# EAGLE library part BMP390L (library BMP390L footprint symbol)
Check availability <https://pricing.snapeda.com/parts/BMP390L/Bosch%20Sensortec/view-part?ref=eda>
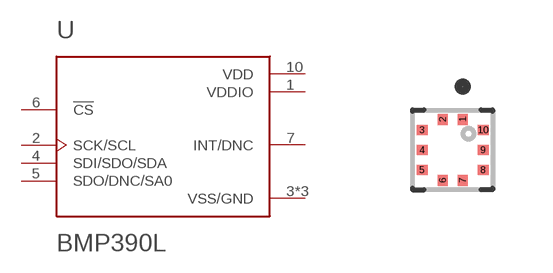
[diagram p0: symbol with the pads of XDCR_BMP390L; footprint XDCR_BMP390L]

Designator prefix U

## BMP390L (Availability: In Stock; Check_prices: https://www.snapeda.com/parts/BMP390L/Bosch+Sensortec/view-part/?ref=eda; Description: Pressure Sensor Development Tools Evaluation Shuttle Board for the BMP390L; MF: Bosch Sensortec; MP: BMP390L; Package: None; Price: None; Purchase-URL: https://www.snapeda.com/api/url_track_click_mouser/?unipart_id=4817101&manufacturer=Bosch Sensortec&part_name=BMP390L&search_term=bmp390; SnapEDA_Link: https://www.snapeda.com/parts/BMP390L/Bosch+Sensortec/view-part/?ref=snap)  [XDCR_BMP390L]
1  VDDIO  pwr
2  SCK/SCL  in
3  VSS/GND  pwr
4  SDI/SDO/SDA
5  SDO/DNC/SA0
6  !CS  in
7  INT/DNC  out
8  VSS/GND  pwr
9  VSS/GND  pwr
10  VDD  pwr

## Footprint XDCR_BMP390L (pad centres in mm)
smd 0.25 x 0.275: 1 0.25,0.762; 2 -0.25,0.762; 6 -0.25,-0.762; 7 0.25,-0.762
smd 0.275 x 0.25: 3 -0.762,0.5; 4 -0.762,0; 5 -0.762,-0.5; 8 0.762,-0.5; 9 0.762,0; 10 0.762,0.5